# Altium footprint library RMCF2512JT1K80.PcbLib: 3 footprints
Each footprint in its own frame and in the unit in brackets; x right, y up, seen from the top. Pads: shape width x height; smd on the part's side, far side on the other; paste and mask are expansions set on the pad; w line width, h text height; cw(c..) or ccw(c..) is an arc to the next point about the centre after c.
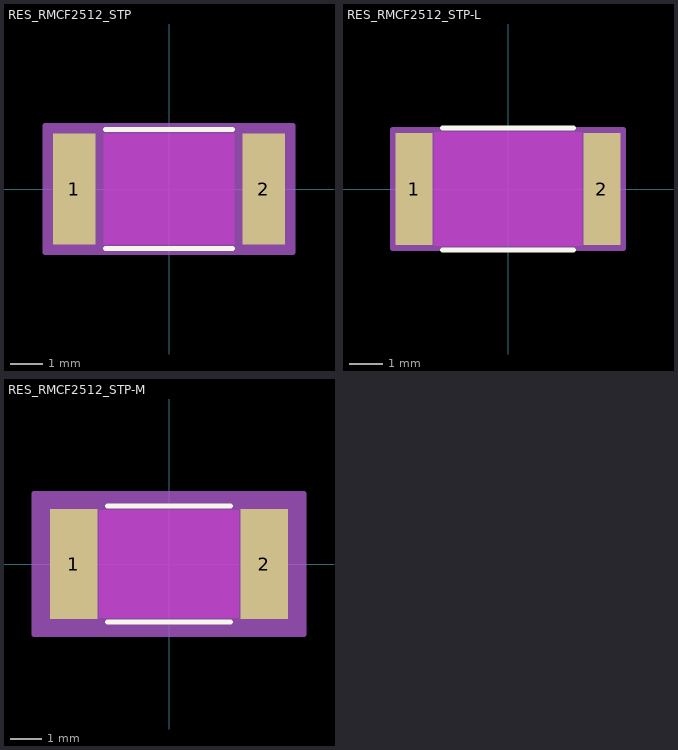
[diagram p0: the footprints below, top view; thin cyan lines are the x and y axes]

## RES_RMCF2512_STP [mil]
pads (2):
  rect 52x136 smd paste+0 mask+0: 1(-116,0) 2(116,0)
Top Layer keep-out:
  region: -80,-66 -80,66 80,66 80,-66
Top Overlay:
  lines w6: -77.89,-73 77.89,-73 ; -77.89,73 77.89,73
Keep-Out Layer:
  region: -80,-68 -80,68 80,68 80,-68
Mechanical 13:
  lines w1: -128,-68 -128,68 ; -128,-68 -90,-68 -90,68 -128,68 ; -128,-68 128,-68 ; -128,-68 -128,68 ; -128,68 128,68 ; 128,-68 90,-68 90,68 128,68 ; 128,-68 128,68 ; 128,-68 128,68
Mechanical 15:
  region: 152,-78 -152,-78 -152,78 152,78
  lines w6: -152,-78 -152,78 152,78 152,-78 -152,-78
3D body "RES_RMCF2512_STP.step": height 27.99, standoff 0, extent -127.99,-67.99 127.99,67.99

## RES_RMCF2512_STP-L [mil]
pads (2):
  rect 44x134 smd paste+0 mask+0: 1(-112,0) 2(112,0)
Top Layer keep-out:
  region: -88,-66 -88,66 88,66 88,-66
Top Overlay:
  lines w6: -78.35,-73 78.35,-73 ; -78.35,73 78.35,73
Keep-Out Layer:
  region: -88,-68 -88,68 88,68 88,-68
Mechanical 13:
  lines w1: -128,-68 -128,68 ; -128,-68 -90,-68 -90,68 -128,68 ; -128,-68 128,-68 ; -128,-68 -128,68 ; -128,68 128,68 ; 128,-68 90,-68 90,68 128,68 ; 128,-68 128,68 ; 128,-68 128,68
Mechanical 15:
  region: 138,-71 -138,-71 -138,71 138,71
  lines w6: -138,-71 -138,71 138,71 138,-71 -138,-71
3D body "RES_RMCF2512_STP.step": height 27.99, standoff 0, extent -127.99,-67.99 127.99,67.99

## RES_RMCF2512_STP-M [mil]
pads (2):
  rect 60x138 smd paste+0 mask+0: 1(-120,0) 2(120,0)
Top Layer keep-out:
  region: -88,-66 -88,66 88,66 88,-66
Top Overlay:
  lines w6: -77.53,-73 77.53,-73 ; -77.53,73 77.53,73
Keep-Out Layer:
  region: -88,-68 -88,68 88,68 88,-68
Mechanical 13:
  lines w1: -128,-68 -128,68 ; -128,-68 -90,-68 -90,68 -128,68 ; -128,-68 128,-68 ; -128,-68 -128,68 ; -128,68 128,68 ; 128,-68 90,-68 90,68 128,68 ; 128,-68 128,68 ; 128,-68 128,68
Mechanical 15:
  region: 170,-89 -170,-89 -170,89 170,89
  lines w6: -170,-89 -170,89 170,89 170,-89 -170,-89
3D body "RES_RMCF2512_STP.step": height 27.99, standoff 0, extent -127.99,-67.99 127.99,67.99